# Altium schematic symbol library jclib.SchLib: 247 symbols (part 2 of 2)
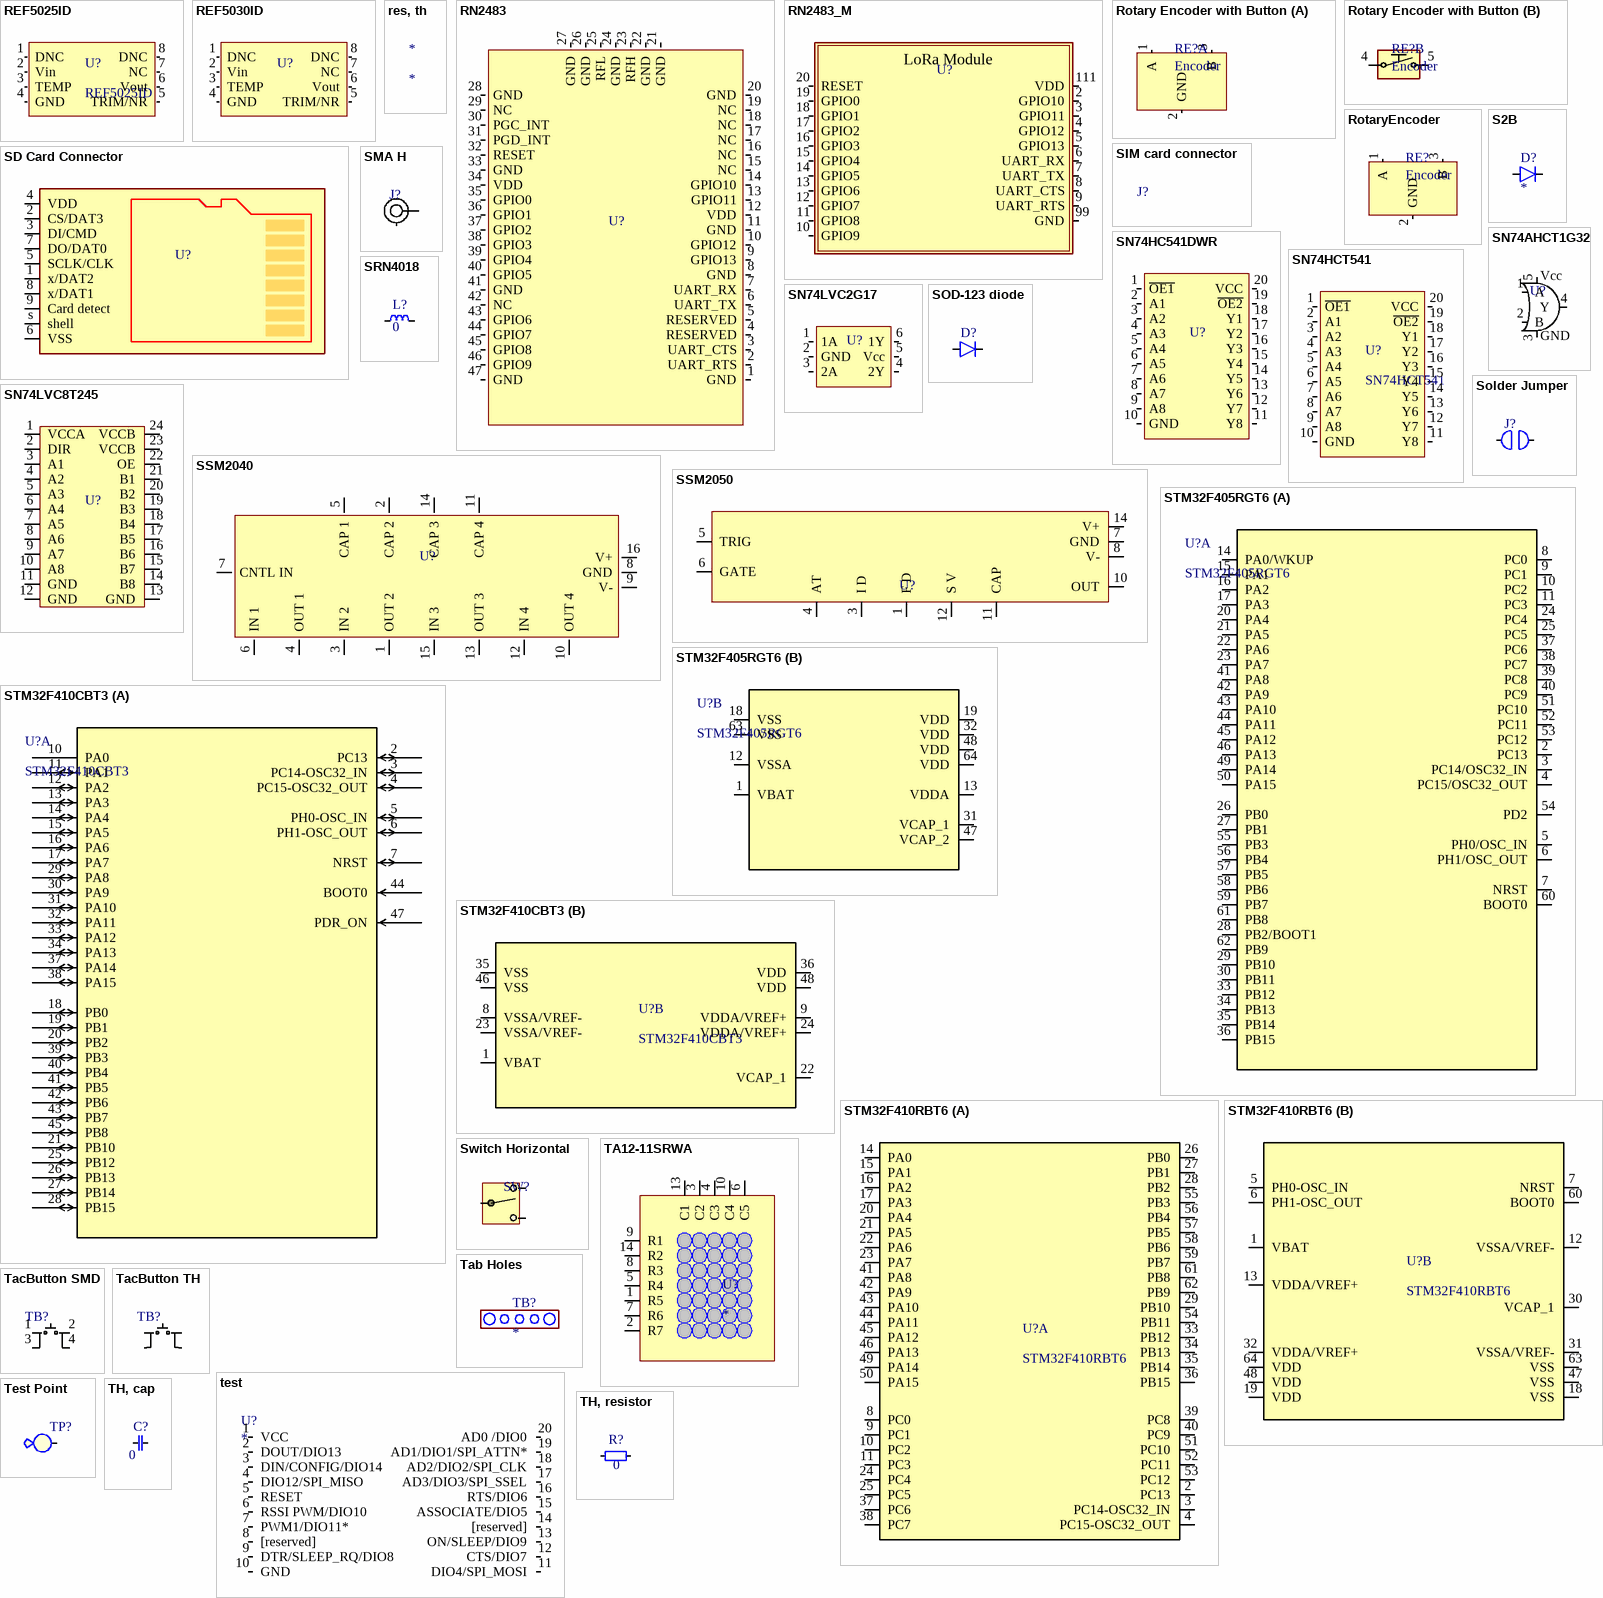
[diagram p10: symbols REF5025ID to TH, resistor]

## STM32F410CBT3
designator U?
No Description Available; Vendor: STMicroelectronics; Built_By: EMA_UL_Team; SourceLibrary: Updates_to_database_2020-10-19; Manufacturer_Part_Number: STM32F410CBT3; Copyright: Copyright (C) 2018 Accelerated Designs. All rights reserved; RefDes: RefDes; Type: DEV
footprint TQFP127P600-8N (TQFP48 - 48-pin, LQFP48 - 48-pin, 0.5 mm pitch)
part A pins: 2 PC13, 3 PC14-OSC32_IN, 4 PC15-OSC32_OUT, 5 PH0-OSC_IN, 6 PH1-OSC_OUT, 7 NRST, 10 PA0, 11 PA1, 12 PA2, 13 PA3, 14 PA4, 15 PA5, 16 PA6, 17 PA7, 18 PB0, 19 PB1, 20 PB2, 21 PB10, 25 PB12, 26 PB13, 27 PB14, 28 PB15, 29 PA8, 30 PA9, 31 PA10, 32 PA11, 33 PA12, 34 PA13, 37 PA14, 38 PA15, 39 PB3, 40 PB4, 41 PB5, 42 PB6, 43 PB7, 44 BOOT0, 45 PB8, 47 PDR_ON
part B pins: 1 VBAT (power), 8 VSSA/VREF- (power), 9 VDDA/VREF+ (power), 22 VCAP_1 (power), 23 VSSA/VREF- (power), 24 VDDA/VREF+ (power), 35 VSS (power), 36 VDD (power), 46 VSS (power), 48 VDD (power)

## STM32F410RBT6
designator U?
No Description Available; Vendor: STMicroelectronics; Built_By: EMA_UL_Team; SourceLibrary: Updates_to_database_2020-10-19; Manufacturer_Part_Number: STM32F410RBT6; Copyright: Copyright (C) 2018 Accelerated Designs. All rights reserved; RefDes: RefDes; Type: DEV
footprint LQFP64-10x10mm
part A pins: 2 PC13, 3 PC14-OSC32_IN, 4 PC15-OSC32_OUT, 8 PC0, 9 PC1, 10 PC2, 11 PC3, 14 PA0, 15 PA1, 16 PA2, 17 PA3, 20 PA4, 21 PA5, 22 PA6, 23 PA7, 24 PC4, 25 PC5, 26 PB0, 27 PB1, 28 PB2, 29 PB10, 33 PB12, 34 PB13, 35 PB14, 36 PB15, 37 PC6, 38 PC7, 39 PC8, 40 PC9, 41 PA8, 42 PA9, 43 PA10, 44 PA11, 45 PA12, 46 PA13, 49 PA14, 50 PA15, 51 PC10, 52 PC11, 53 PC12, 54 PB11, 55 PB3, 56 PB4, 57 PB5, 58 PB6, 59 PB7, 61 PB8, 62 PB9
part B pins: 1 VBAT (power), 5 PH0-OSC_IN, 6 PH1-OSC_OUT, 7 NRST, 12 VSSA/VREF- (power), 13 VDDA/VREF+ (power), 18 VSS (power), 19 VDD (power), 30 VCAP_1 (power), 31 VSSA/VREF- (power), 32 VDDA/VREF+ (power), 47 VSS (power), 48 VDD (power), 60 BOOT0, 63 VSS (power), 64 VDD (power)

## Switch Horizontal
designator SW?  (value not drawn)
Value: Toggle Switch; Farnell: 2435204
footprint Switch_Horizontal (Two Way Single Pole Switch)
pins: 1, 2, 3

## TA12-11SRWA
designator U?
30.6mm (1.2 INCH) 5x7 DOT MATRIX DISPLAY; Value: LED matrix; Digikey: 754-2303-ND
footprint TA12_11 (LED matrix)
pins: 1 R5, 2 R7, 3 C2, 4 C3, 5 R4, 6 C5, 7 R6, 8 R3, 9 R1, 10 C4, 13 C1, 14 R2

## Tab Holes
designator TB?
Tab Holes for panels
footprint tab_holes

## TacButton SMD
designator TB?, comment Tactile Button  (value not drawn)
Tactile Switch Small Low; Value: Button SMD; ELFA: 110-87-406
footprint tacButton smd
pins: 1, 2, 3, 4

## TacButton TH
designator TB?, comment Tactile Button  (value not drawn)
Tactile Switch Small Low
footprint tacButton
pins: 1, 2, 3, 4

## test
designator U?
Value: Op amp
footprint test
pins: 1 VCC, 2 DOUT/DIO13, 3 DIN/CONFIG/DIO14, 4 DIO12/SPI_MISO, 5 RESET, 6 RSSI PWM/DIO10, 7 PWM1/DIO11*, 8 [reserved], 9 DTR/SLEEP_RQ/DIO8, 10 GND, 11 DIO4/SPI_MOSI, 12 CTS/DIO7, 13 ON/SLEEP/DIO9, 14 [reserved], 15 ASSOCIATE/DIO5, 16 RTS/DIO6, 17 AD3/DIO3/SPI_SSEL, 18 AD2/DIO2/SPI_CLK, 19 AD1/DIO1/SPI_ATTN*, 20 AD0 /DIO0

## Test Point
designator TP?  (value not drawn)
Value: Test point; Farnell: 1702006
footprint testPoint (Diameter 2mm, Hole 0.3mm)
pins: 0

## TH, cap
designator C?  value 0  (hidden comment: *)
Supplier: Farnell; Order number: *
footprint cap_cer_5_08
footprint th, cap (8 mm)
pins: 1, 2

## TH, resistor
designator R?  value 0
footprint TH (Spacing 9mm)
pins: 1, 2

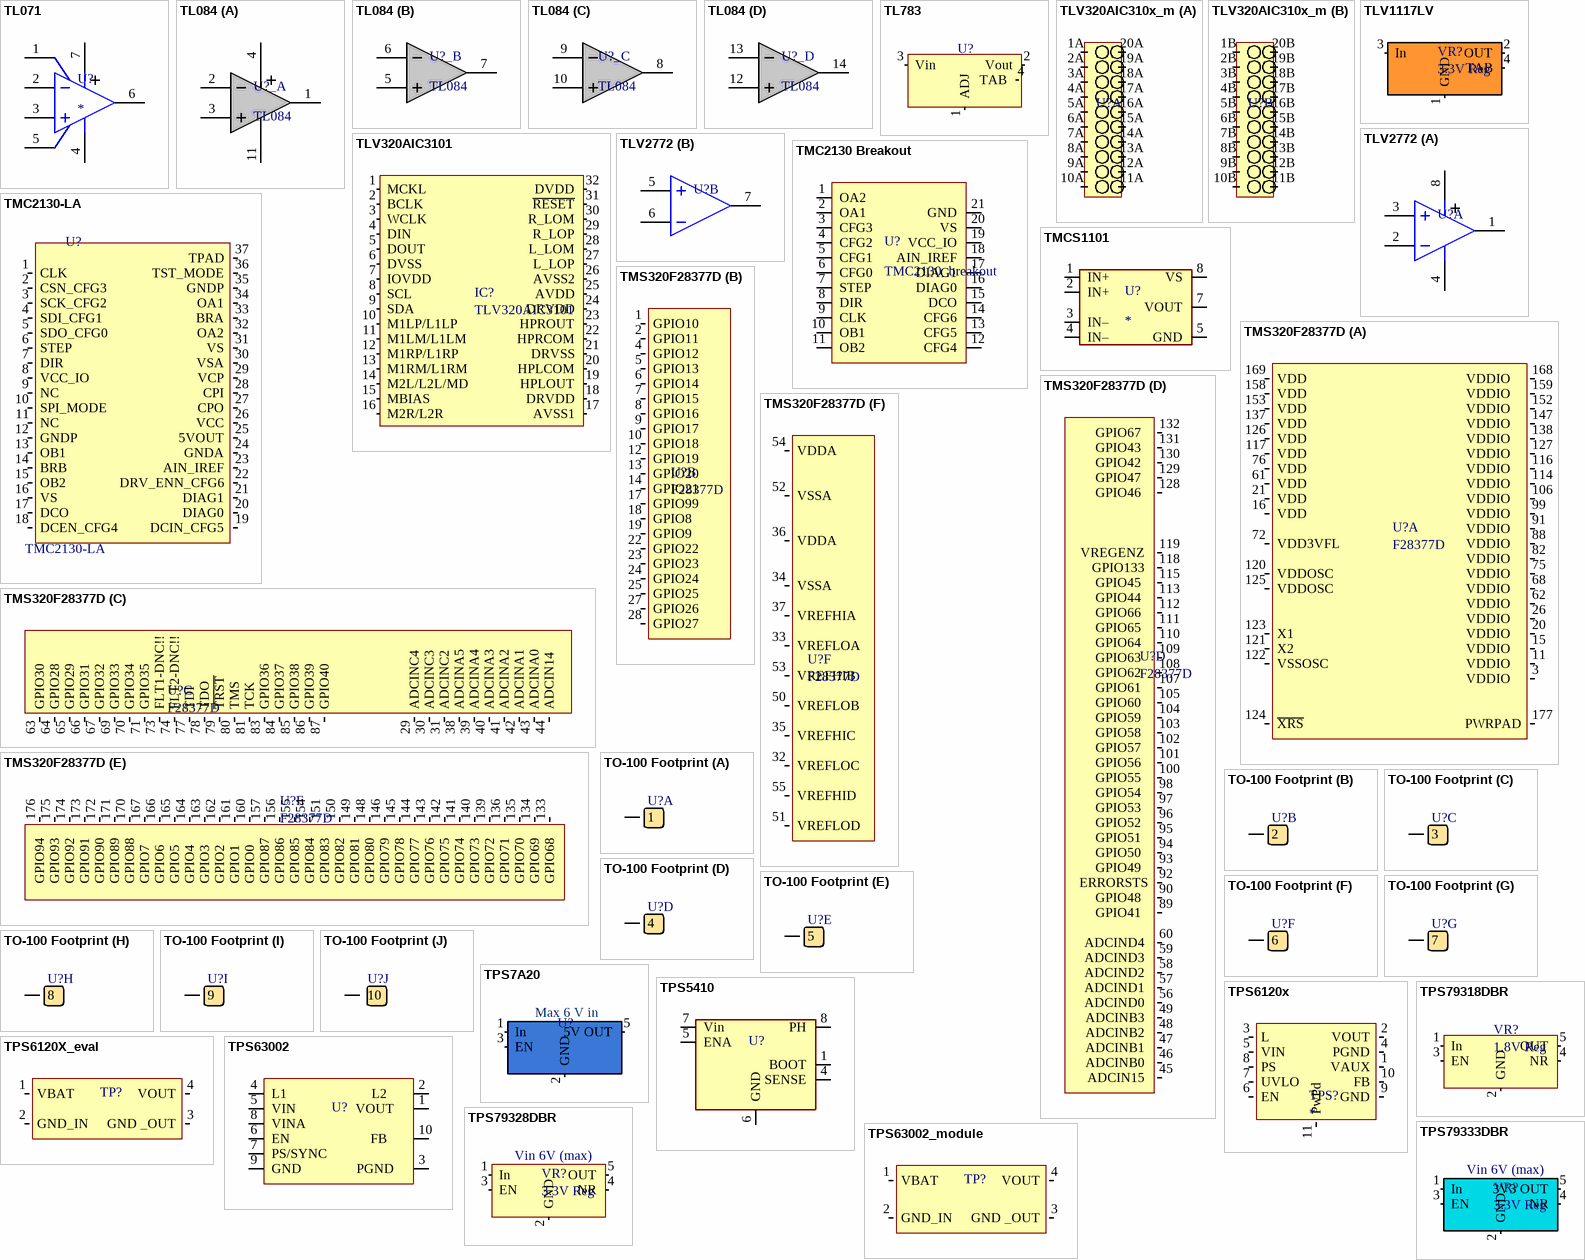
[diagram p7: symbols TL071 to TPS79333DBR]

## TL071
designator U?
footprint DIP8
pins: 1 OS TRIM, 2 IN-, 3 IN+, 4 V- (power), 5 OS TRIM, 6 OUT, 7 V+ (power)

## TL084
designator U?_
Quad FET-Input Operational Amplifier
footprint DIP14
part A pins: 1 OUT1, 2 IN-, 3 IN+, 4 V+ (power), 11 V- (power)
part B pins: 5 IN+, 6 IN-, 7 OUT2
part C pins: 8 OUT3 (hiz), 9 IN- (hiz), 10 IN+ (hiz)
part D pins: 12 IN+, 13 IN-, 14 OUT4

## TL783
designator U?  (value not drawn)
TL783 High-voltage Adjustable Regulator; Value: Voltage Regulator
footprint TO-263
pins: 1 ADJ, 2 Vout, 3 Vin, 4 TAB

## TLV320AIC310x_m
designator U?
Value: TLV320AIC31x Module. See TLV-project for BOM.
footprint TLV320AIC310x_m (Codec Module)
part A pins: 1A 1, 2A 2, 3A 3, 4A 4, 5A 5, 6A 6, 7A 7, 8A 8, 9A 9, 10A 10, 11A 11, 12A 12, 13A 13, 14A 14, 15A 15, 16A 16, 17A 17, 18A 18, 19A 19, 20A 20
part B pins: 1B, 2B, 3B, 4B, 5B, 6B, 7B, 8B, 9B, 10B, 11B, 12B, 13B, 14B, 15B, 16B, 17B, 18B, 19B, 20B

## TLV320AIC3101
designator IC?
Low-Power Stereo Audio Codec for Portable Audio/Telephony; Value: TLV320AIC3101; Farnell: 2075402
footprint QFN32_5X5 (QFN 32, 5X5 mm, 0.5 mm pitch)
pins: 1 MCKL, 2 BCLK, 3 WCLK, 4 DIN, 5 DOUT, 6 DVSS, 7 IOVDD, 8 SCL, 9 SDA, 10 M1LP/L1LP, 11 M1LM/L1LM, 12 M1RP/L1RP, 13 M1RM/L1RM, 14 M2L/L2L/MD, 15 MBIAS, 16 M2R/L2R, 17 AVSS1, 18 DRVDD, 19 HPLOUT, 20 HPLCOM, 21 DRVSS, 22 HPRCOM, 23 HPROUT, 24 DRVDD, 25 AVDD, 26 AVSS2, 27 L_LOP, 28 L_LOM, 29 R_LOP, 30 R_LOM, 31 ~{RESET}, 32 DVDD

## TLV1117LV
designator VR?, comment 3.3V Reg
TLV1117LV 1-A, Positive Fixed-Voltage, Low-Dropout Regulator; Value: TPS79333DBVR; Drop Out: 102mV; Farnell: 1287689
footprint SOT223 (SOT223, 4-Leads, Body 6,50x7,10mm (avg), Pitch 2,30mm, IPC Medium Density)
pins: 1 GND, 2 OUT, 3 In, 4 TAB

## TLV2772
designator U?
Op Amp, Rail-to-rail output
footprint soic8 (SOIC, 8-Leads, Body 4,90x3,90mm, Pitch 1,27mm, IPC Medium Density)
part A pins: 1 OUT, 2 IN-, 3 IN+, 4 V- (power), 8 V+ (power)
part B pins: 5 IN+, 6 IN-, 7 OUT

## TMC2130 Breakout
designator U?, comment TMC2130_breakout
footprint TMC2130_breakout
pins: 1 OA2, 2 OA1, 3 CFG3, 4 CFG2, 5 CFG1, 6 CFG0, 7 STEP, 8 DIR, 9 CLK, 10 OB1, 11 OB2, 12 CFG4, 13 CFG5, 14 CFG6, 15 DCO, 16 DIAG0, 17 DIAG1, 18 AIN_IREF, 19 VCC_IO, 20 VS, 21 GND

## TMC2130-LA
designator U?  value TMC2130-LA  (hidden comment: *)
Two-phase bipolar stepper motor driver
footprint QFN36 (5x6mm, pitch 0.5mm)
pins: 1 CLK, 2 CSN_CFG3, 3 SCK_CFG2, 4 SDI_CFG1, 5 SDO_CFG0, 6 STEP, 7 DIR, 8 VCC_IO, 9 NC, 10 SPI_MODE, 11 NC, 12 GNDP, 13 OB1, 14 BRB, 15 OB2, 16 VS, 17 DCO, 18 DCEN_CFG4, 19 DCIN_CFG5, 20 DIAG0, 21 DIAG1, 22 DRV_ENN_CFG6, 23 AIN_IREF, 24 GNDA, 25 5VOUT, 26 VCC, 27 CPO, 28 CPI, 29 VCP, 30 VSA, 31 VS, 32 OA2, 33 BRA, 34 OA1, 35 GNDP, 36 TST_MODE, 37 TPAD

## TMCS1101
designator U?
Hall-Effect Current Sensor
footprint SOIC8 (SOIC, 8-Leads, Body 4,90x3,90mm, Pitch 1,27mm, IPC Medium Density)
pins: 1 IN+, 2 IN+, 3 IN–, 4 IN–, 5 GND, 7 VOUT, 8 VS

## TMS320F28377D
designator U?, comment F28377D
Delfino 32-bit MCU with 800 MIPS, 2xCPU, 2xCLA, FPU, TMU, 1024 KB Flash, EMIF, 16b ADC; Value: F28377D
footprint HLQFP176
part A pins: 3 VDDIO   , 11 VDDIO   , 15 VDDIO   , 16 VDD     , 20 VDDIO   , 21 VDD     , 26 VDDIO   , 61 VDD     , 62 VDDIO   , 68 VDDIO   , 72 VDD3VFL , 75 VDDIO   , 76 VDD     , 82 VDDIO   , 88 VDDIO   , 91 VDDIO   , 99 VDDIO   , 106 VDDIO   , 114 VDDIO   , 116 VDDIO   , 117 VDD     , 120 VDDOSC  , 121 X2      , 122 VSSOSC  , 123 X1      , 124 ~{XRS}     , 125 VDDOSC  , 126 VDD     , 127 VDDIO   , 137 VDD     , 138 VDDIO   , 147 VDDIO   , 152 VDDIO   , 153 VDD     , 158 VDD     , 159 VDDIO   , 168 VDDIO   , 169 VDD     , 177 PWRPAD
part B pins: 1 GPIO10  , 2 GPIO11  , 4 GPIO12  , 5 GPIO13  , 6 GPIO14  , 7 GPIO15  , 8 GPIO16  , 9 GPIO17  , 10 GPIO18  , 12 GPIO19  , 13 GPIO20  , 14 GPIO21  , 17 GPIO99  , 18 GPIO8   , 19 GPIO9   , 22 GPIO22  , 23 GPIO23  , 24 GPIO24  , 25 GPIO25  , 27 GPIO26  , 28 GPIO27  
part C pins: 29 ADCINC4 , 30 ADCINC3 , 31 ADCINC2 , 38 ADCINA5 , 39 ADCINA4 , 40 ADCINA3 , 41 ADCINA2 , 42 ADCINA1 , 43 ADCINA0 , 44 ADCIN14 , 63 GPIO30  , 64 GPIO28  , 65 GPIO29  , 66 GPIO31  , 67 GPIO32  , 69 GPIO33  , 70 GPIO34  , 71 GPIO35  , 73 FLT1-DNC!!, 74 FLT2-DNC!!, 77 TDI     , 78 TDO     , 79 ~{TRST}    , 80 TMS     , 81 TCK     , 83 GPIO36  , 84 GPIO37  , 85 GPIO38  , 86 GPIO39  , 87 GPIO40  
part D pins: 45 ADCIN15 , 46 ADCINB0 , 47 ADCINB1 , 48 ADCINB2 , 49 ADCINB3 , 56 ADCIND0 , 57 ADCIND1 , 58 ADCIND2 , 59 ADCIND3 , 60 ADCIND4 , 89 GPIO41  , 90 GPIO48  , 92 ERRORSTS, 93 GPIO49  , 94 GPIO50  , 95 GPIO51  , 96 GPIO52  , 97 GPIO53  , 98 GPIO54  , 100 GPIO55  , 101 GPIO56  , 102 GPIO57  , 103 GPIO58  , 104 GPIO59  , 105 GPIO60  , 107 GPIO61  , 108 GPIO62  , 109 GPIO63  , 110 GPIO64  , 111 GPIO65  , 112 GPIO66  , 113 GPIO44  , 115 GPIO45  , 118 GPIO133 , 119 VREGENZ , 128 GPIO46  , 129 GPIO47  , 130 GPIO42  , 131 GPIO43  , 132 GPIO67  
part E pins: 133 GPIO68  , 134 GPIO69  , 135 GPIO70  , 136 GPIO71  , 139 GPIO72  , 140 GPIO73  , 141 GPIO74  , 142 GPIO75  , 143 GPIO76  , 144 GPIO77  , 145 GPIO78  , 146 GPIO79  , 148 GPIO80  , 149 GPIO81  , 150 GPIO82  , 151 GPIO83  , 154 GPIO84  , 155 GPIO85  , 156 GPIO86  , 157 GPIO87  , 160 GPIO0    , 161 GPIO1    , 162 GPIO2    , 163 GPIO3    , 164 GPIO4    , 165 GPIO5    , 166 GPIO6    , 167 GPIO7    , 170 GPIO88  , 171 GPIO89  , 172 GPIO90  , 173 GPIO91  , 174 GPIO92  , 175 GPIO93  , 176 GPIO94  
part F pins: 32 VREFLOC , 33 VREFLOA , 34 VSSA    , 35 VREFHIC , 36 VDDA    , 37 VREFHIA , 50 VREFLOB , 51 VREFLOD , 52 VSSA    , 53 VREFHIB , 54 VDDA    , 55 VREFHID 

## TO-100 Footprint
designator U?  (value not drawn)
footprint to-100
part A pins: 1
part B pins: 2
part C pins: 3
part D pins: 4
part E pins: 5
part F pins: 6
part G pins: 7
part H pins: 8
part I pins: 9
part J pins: 10

## TPS7A20
designator U?  (value not drawn)
5V and 300-mA, Ultra-Low-Noise, Low-IQ, High PSRR LDO; Order number: 296-TPS7A2050PDBVRCT-ND; Supplier: Digikey
footprint SOT23-5 (SOT23, 5-Leads, Body 2,90x2,80mm, Pitch 0,95mm, IPC Medium Density)
pins: 1 In, 2 GND, 3 EN, 5 5V OUT
text: Max 6 V in

## TPS5410
designator U?  (value not drawn)
1-A, Wide Input Range, Step-Down Converter; Value: *; Supplier: *; Order Number: *
footprint SOIC8 (SOIC, 8-Leads, Body 4,90x3,90mm, Pitch 1,27mm, IPC Medium Density)
pins: 1 BOOT, 4 SENSE, 5 ENA, 6 GND, 7 Vin, 8 PH

## TPS6120x
designator TPS?
TPS6120x Low Input Voltage Synchronous Boost Converter; Value: TPS61200; DigiKey: 296-27017-1-ND
footprint PSON10N (Pitch - 0.5 mm)
pins: 1 VAUX, 2 VOUT, 3 L, 4 PGND, 5 VIN, 6 EN, 7 UVLO, 8 PS, 9 GND, 10 FB, 11 PwPd

## TPS6120X_eval
designator TP?  (value not drawn)
Module - Low Input Voltage Synchronous Boost Converter  With 1.3-A Switches; Value: TPS6120X Module
footprint TPS6120X_eval (x Low Input Voltage Synchronous Boost Converter  With 1.3-A Switches)
pins: 1 VBAT, 2 GND_IN, 3 GND _OUT, 4 VOUT

## TPS63002
designator U?
High-Efficient Single Inductor Buck-Boost Converter With 1.8-A Switches; Value: DC/DC Converter; Digikey: 296-19644-1-ND
footprint PSON10N (Pitch - 0.5 mm)
pins: 1 VOUT   , 2 L2     , 3 PGND   , 4 L1     , 5 VIN    , 6 EN     , 7 PS/SYNC, 8 VINA   , 9 GND    , 10 FB     

## TPS63002_module
designator TP?  (value not drawn)
High-Efficient Single Inductor Buck-Boost Converter With 1.8-A Switches; Value: TPS6120X Module
footprint TPS63002_module
pins: 1 VBAT, 2 GND_IN, 3 GND _OUT, 4 VOUT

## TPS79318DBR
designator VR?, comment 1.8V Reg
1.8V Reg, Ultra-Low Noise, 200 mA; Value: TPS79318DBVR; Farnell: 1652374
footprint SOT23-5 (SOT23, 5-Leads, Body 2,90x2,80mm, Pitch 0,95mm, IPC Medium Density)
pins: 1 In, 2 GND, 3 EN, 4 NR, 5 OUT

## TPS79328DBR
designator VR?, comment 3.3V Reg  Input Voltage: Vin 6V (max)
2.8V Reg, Ultra-Low Noise, 200 mA; Value: TPS79328DBVR; Drop Out: 102mV; Farnell: 3007956; Digikey: 296-12158-1-ND
footprint SOT23-5 (SOT23, 5-Leads, Body 2,90x2,80mm, Pitch 0,95mm, IPC Medium Density)
pins: 1 In, 2 GND, 3 EN, 4 NR, 5 OUT

## TPS79333DBR
designator VR?, comment 3.3V Reg  Input Voltage: Vin 6V (max)
3.3V Reg, Ultra-Low Noise, 200 mA; Value: TPS79333DBVR; Drop Out: 102mV; Farnell: 1287689
footprint SOT23-5 (SOT23, 5-Leads, Body 2,90x2,80mm, Pitch 0,95mm, IPC Medium Density)
pins: 1 In, 2 GND, 3 EN, 4 NR, 5 3V3 OUT

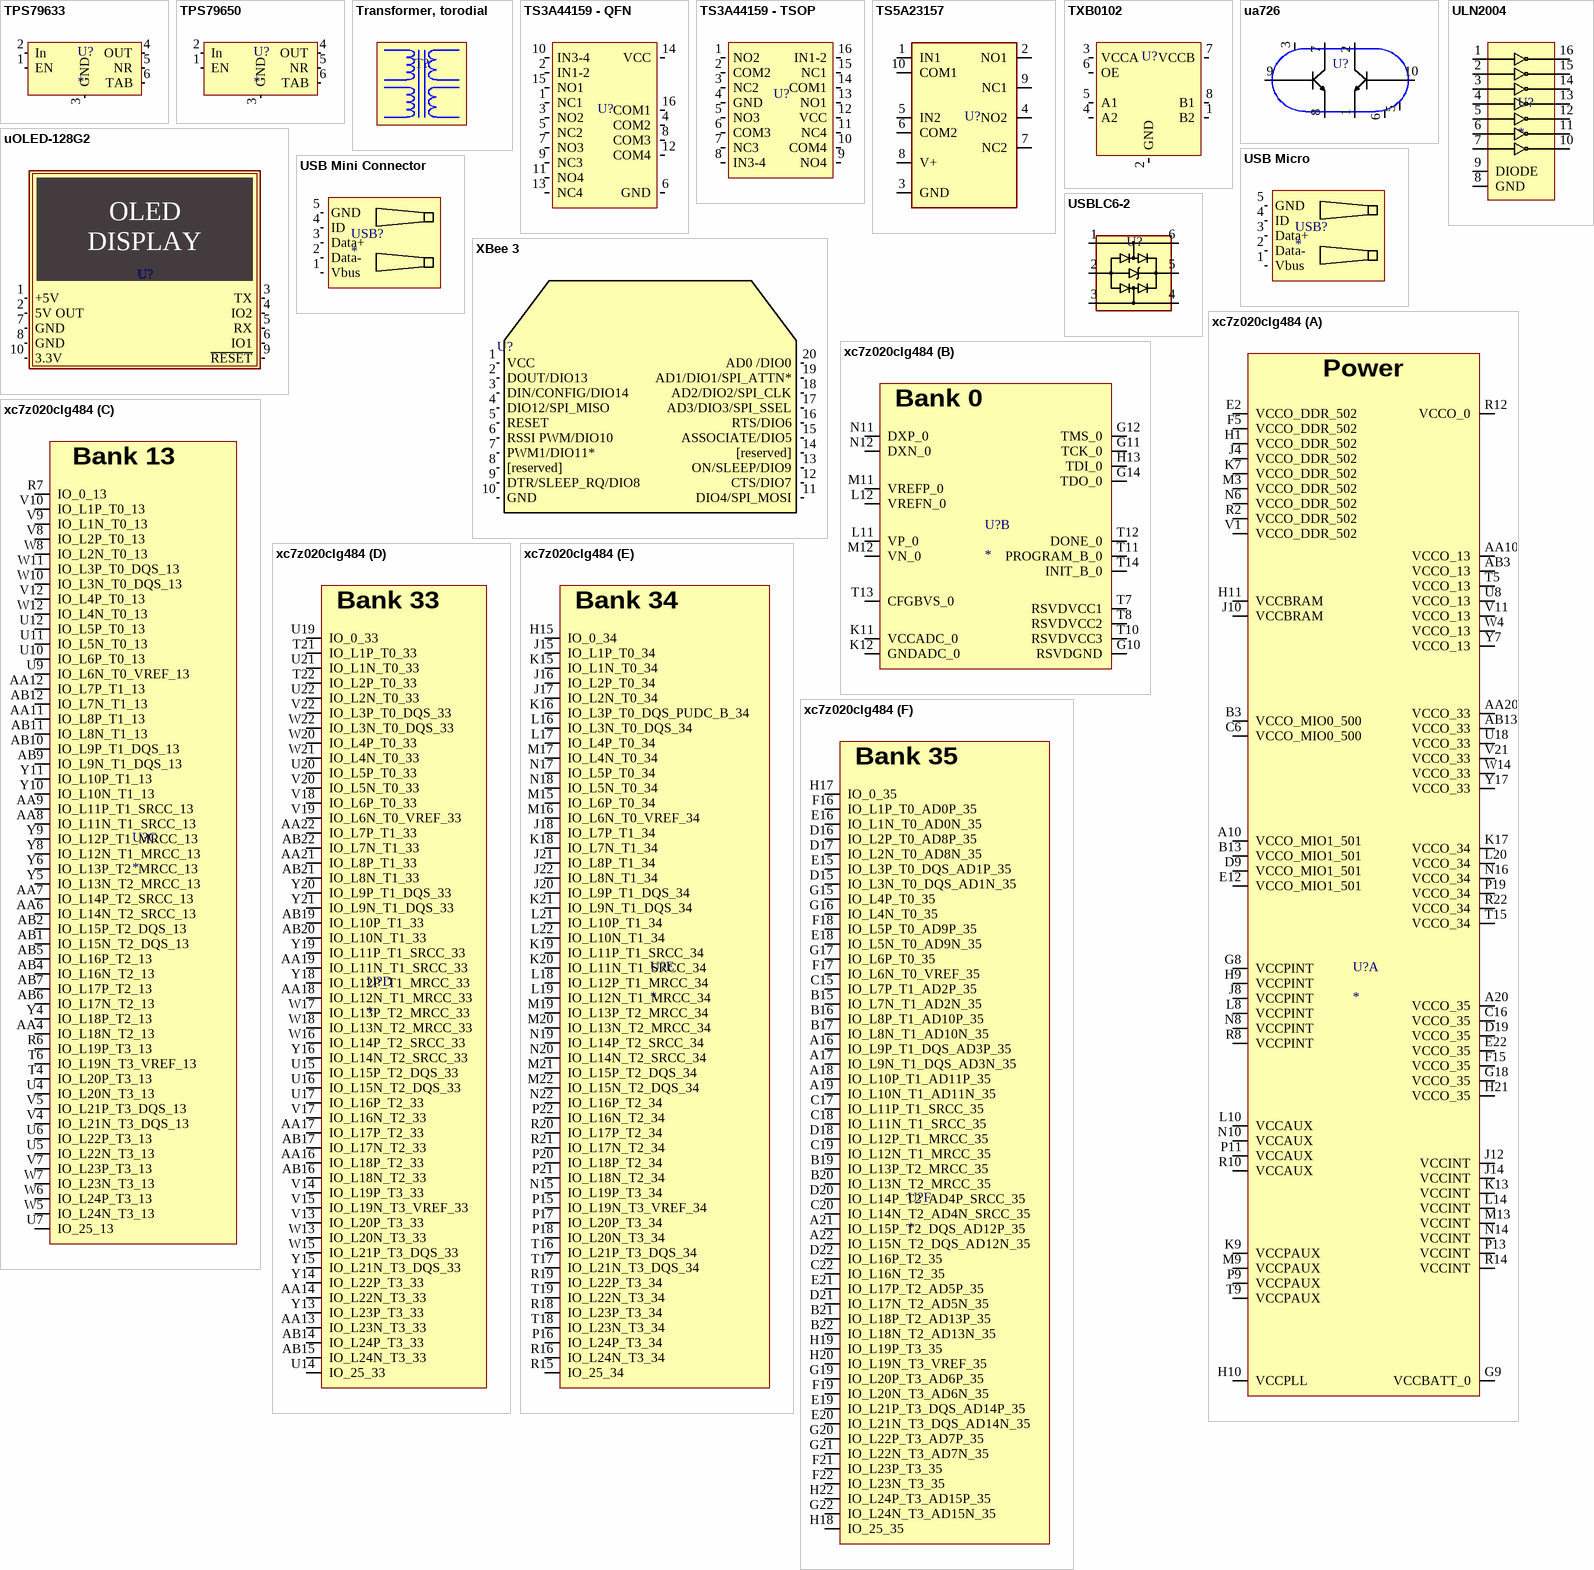
[diagram p8: symbols TPS79633 to xc7z020clg484]

## TPS79633
designator U?
3.3 V 1-A Low-Dropout Linear Regulators; Value: LDO TPS79633; Supplier: *; Order Number: *
footprint SOT223-6 (SOT223, 6-Leads, Body 6,50x7,06mm (avg), Pitch 1,27mm, IPC Medium Density)
pins: 1 EN, 2 In, 3 GND, 4 OUT, 5 NR, 6 TAB

## TPS79650
designator U?
5.0 V 1-A Low-Dropout Linear Regulators; Value: LDO TPS79650; Supplier: *; Order Number: *
footprint SOT223-6 (SOT223, 6-Leads, Body 6,50x7,06mm (avg), Pitch 1,27mm, IPC Medium Density)
pins: 1 EN, 2 In, 3 GND, 4 OUT, 5 NR, 6 TAB

## Transformer, torodial
designator T?  (value not drawn)
Value: Transformer; Supplier: *; Order number: *
footprint transformer_totodial

## TS3A44159 - QFN
designator U?  (value not drawn)
Value: Analog switch; Farnell: 2496546
footprint QFN16 - 3x3mm (QFN, 16-Leads, Body 3,00x3,00mm, Pitch 0,50mm)
pins: 1 NC1, 2 IN1-2, 3 NO2, 4 COM2, 5 NC2, 6 GND, 7 NO3, 8 COM3, 9 NC3, 10 IN3-4, 11 NO4, 12 COM4, 13 NC4, 14 VCC, 15 NO1, 16 COM1

## TS3A44159 - TSOP
designator U?  (value not drawn)
Value: Analog switch; Farnell: 1755573
footprint TSOP-16 (TSOP, 16-Leads, Body 5,00x4,40mm, Pitch 0,65mm)
pins: 1 NO2, 2 COM2, 3 NC2, 4 GND, 5 NO3, 6 COM3, 7 NC3, 8 IN3-4, 9 NO4, 10 COM4, 11 NC4, 12 VCC, 13 NO1, 14 COM1, 15 NC1, 16 IN1-2

## TS5A23157
designator U?  (value not drawn)
Dual 10-Ω SPDT Analog Switch
footprint VSSOP10
pins: 1 IN1, 2 NO1, 3 GND, 4 NO2, 5 IN2, 6 COM2, 7 NC2, 8 V+, 9 NC1, 10 COM1

## TXB0102
designator U?  (value not drawn)
2-Bit Bidirectional Voltage-Level Translator for Open-Drain and Push-Pull  Applications; Value: Level Converter; Digikey: *
footprint VSSOP8
footprint VSSOP8_S
pins: 1 B2, 2 GND, 3 VCCA, 4 A2, 5 A1, 6 OE, 7 VCCB, 8 B1

## ua726
designator U?  (value not drawn)
Value: Matched differential transistor pair; Supplier: *; Order number: *
footprint to-100
pins: 1, 2, 3, 5, 6, 7, 8, 9, 10

## ULN2004
designator U?
Seven Darlington array; Value: Driver; Digikey: 497-2346-5-ND
footprint DIP16
pins: 1, 2, 3, 4, 5, 6, 7, 8 GND, 9 DIODE, 10, 11, 12, 13, 14, 15, 16

## uOLED-128G2
designator U?  (value not drawn)
Value: OLED-Display; Farnell: 2316038
footprint uOLED-128G2 (1.5” microOLED GOLDELOX Display)
footprint uOLED-128G2_no3d (1.5” microOLED GOLDELOX Display)
pins: 1 +5V, 2 5V OUT, 3 TX, 4 IO2, 5 RX, 6 IO1, 7 GND, 8 GND, 9 ~{RESET}, 10 3.3V
text: OLED; DISPLAY

## USB Micro
designator USB?
USB Mini Connector; Value: USB Mini Connector; Farnell: 1125348
footprint micro_usb
pins: 1 Vbus, 2 Data-, 3 Data+, 4 ID, 5 GND

## USB Mini Connector
designator USB?
USB Mini Connector; Value: USB Mini Connector; Farnell: 1125348
footprint USB Mini
footprint USB Mini TH
footprint usb_mini2
pins: 1 Vbus, 2 Data-, 3 Data+, 4 ID, 5 GND

## USBLC6-2
designator U?  (value not drawn)
Very low capacitance 2 data-line and VBUS ESD protection
footprint SOT236 (SOT23, 6-Leads, Body 2,90x2,80mm, Pitch 0,95mm, IPC Medium Density)
pins: 1, 2, 3, 4, 5, 6

## XBee 3
designator U?  (value not drawn)
RF module, pin header 2 mm pitch; Value: XBee 3, RF module
footprint xbee3_pin
pins: 1 VCC, 2 DOUT/DIO13, 3 DIN/CONFIG/DIO14, 4 DIO12/SPI_MISO, 5 RESET, 6 RSSI PWM/DIO10, 7 PWM1/DIO11*, 8 [reserved], 9 DTR/SLEEP_RQ/DIO8, 10 GND, 11 DIO4/SPI_MOSI, 12 CTS/DIO7, 13 ON/SLEEP/DIO9, 14 [reserved], 15 ASSOCIATE/DIO5, 16 RTS/DIO6, 17 AD3/DIO3/SPI_SSEL, 18 AD2/DIO2/SPI_CLK, 19 AD1/DIO1/SPI_ATTN*, 20 AD0 /DIO0

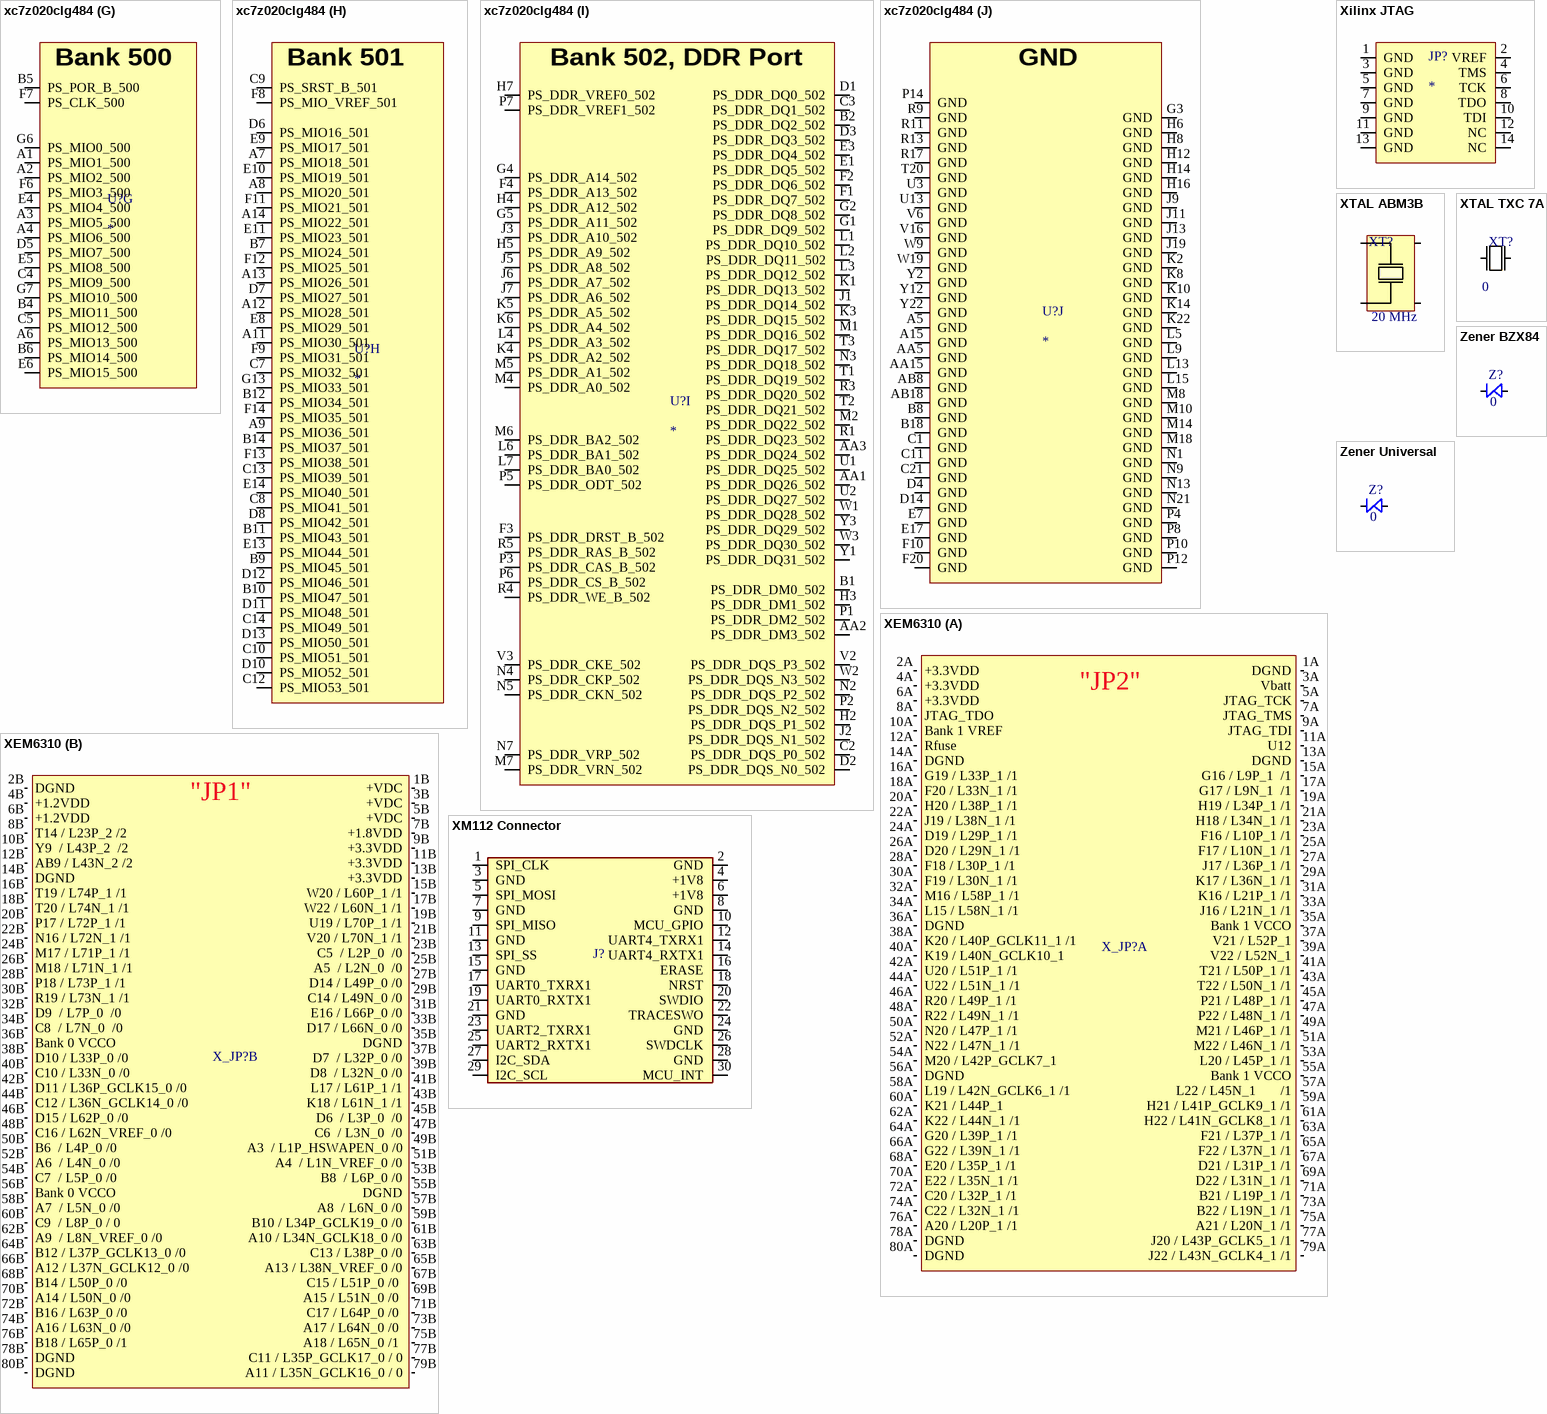
[diagram p9: symbols xc7z020clg484 to Zener Universal]

## xc7z020clg484
designator U?
footprint xc7z020clg484pkg
part A pins: A10 VCCO_MIO1_501, A20 VCCO_35, AA10 VCCO_13, AA20 VCCO_33, AB3 VCCO_13, AB13 VCCO_33, B3 VCCO_MIO0_500, B13 VCCO_MIO1_501, C6 VCCO_MIO0_500, C16 VCCO_35, D9 VCCO_MIO1_501, D19 VCCO_35, E2 VCCO_DDR_502, E12 VCCO_MIO1_501, E22 VCCO_35, F5 VCCO_DDR_502, F15 VCCO_35, G8 VCCPINT, G9 VCCBATT_0, G18 VCCO_35, H1 VCCO_DDR_502, H9 VCCPINT, H10 VCCPLL, H11 VCCBRAM, H21 VCCO_35, J4 VCCO_DDR_502, J8 VCCPINT, J10 VCCBRAM, J12 VCCINT, J14 VCCINT, K7 VCCO_DDR_502, K9 VCCPAUX, K13 VCCINT, K17 VCCO_34, L8 VCCPINT, L10 VCCAUX, L14 VCCINT, L20 VCCO_34, M3 VCCO_DDR_502, M9 VCCPAUX, M13 VCCINT, N6 VCCO_DDR_502, N8 VCCPINT, N10 VCCAUX, N14 VCCINT, N16 VCCO_34, P9 VCCPAUX, P11 VCCAUX, P13 VCCINT, P19 VCCO_34, R2 VCCO_DDR_502, R8 VCCPINT, R10 VCCAUX, R12 VCCO_0, R14 VCCINT, R22 VCCO_34, T5 VCCO_13, T9 VCCPAUX, T15 VCCO_34, U8 VCCO_13, U18 VCCO_33, V1 VCCO_DDR_502, V11 VCCO_13, V21 VCCO_33, W4 VCCO_13, W14 VCCO_33, Y7 VCCO_13, Y17 VCCO_33
part B pins: G10 RSVDGND, G11 TCK_0, G12 TMS_0, G14 TDO_0, H13 TDI_0, K11 VCCADC_0, K12 GNDADC_0, L11 VP_0, L12 VREFN_0, M11 VREFP_0, M12 VN_0, N11 DXP_0, N12 DXN_0, T7 RSVDVCC1, T8 RSVDVCC2, T10 RSVDVCC3, T11 PROGRAM_B_0, T12 DONE_0, T13 CFGBVS_0, T14 INIT_B_0
part C pins: AA4 IO_L18N_T2_13, AA6 IO_L14N_T2_SRCC_13, AA7 IO_L14P_T2_SRCC_13, AA8 IO_L11N_T1_SRCC_13, AA9 IO_L11P_T1_SRCC_13, AA11 IO_L8P_T1_13, AA12 IO_L7P_T1_13, AB1 IO_L15N_T2_DQS_13, AB2 IO_L15P_T2_DQS_13, AB4 IO_L16N_T2_13, AB5 IO_L16P_T2_13, AB6 IO_L17N_T2_13, AB7 IO_L17P_T2_13, AB9 IO_L9N_T1_DQS_13, AB10 IO_L9P_T1_DQS_13, AB11 IO_L8N_T1_13, AB12 IO_L7N_T1_13, R6 IO_L19P_T3_13, R7 IO_0_13, T4 IO_L20P_T3_13, T6 IO_L19N_T3_VREF_13, U4 IO_L20N_T3_13, U5 IO_L22N_T3_13, U6 IO_L22P_T3_13, U7 IO_25_13, U9 IO_L6N_T0_VREF_13, U10 IO_L6P_T0_13, U11 IO_L5N_T0_13, U12 IO_L5P_T0_13, V4 IO_L21N_T3_DQS_13, V5 IO_L21P_T3_DQS_13, V7 IO_L23P_T3_13, V8 IO_L2P_T0_13, V9 IO_L1N_T0_13, V10 IO_L1P_T0_13, V12 IO_L4P_T0_13, W5 IO_L24N_T3_13, W6 IO_L24P_T3_13, W7 IO_L23N_T3_13, W8 IO_L2N_T0_13, W10 IO_L3N_T0_DQS_13, W11 IO_L3P_T0_DQS_13, W12 IO_L4N_T0_13, Y4 IO_L18P_T2_13, Y5 IO_L13N_T2_MRCC_13, Y6 IO_L13P_T2_MRCC_13, Y8 IO_L12N_T1_MRCC_13, Y9 IO_L12P_T1_MRCC_13, Y10 IO_L10N_T1_13, Y11 IO_L10P_T1_13
part D pins: AA13 IO_L23N_T3_33, AA14 IO_L22N_T3_33, AA16 IO_L18P_T2_33, AA17 IO_L17P_T2_33, AA18 IO_L12N_T1_MRCC_33, AA19 IO_L11N_T1_SRCC_33, AA21 IO_L8P_T1_33, AA22 IO_L7P_T1_33, AB14 IO_L24P_T3_33, AB15 IO_L24N_T3_33, AB16 IO_L18N_T2_33, AB17 IO_L17N_T2_33, AB19 IO_L10P_T1_33, AB20 IO_L10N_T1_33, AB21 IO_L8N_T1_33, AB22 IO_L7N_T1_33, T21 IO_L1P_T0_33, T22 IO_L2P_T0_33, U14 IO_25_33, U15 IO_L15P_T2_DQS_33, U16 IO_L15N_T2_DQS_33, U17 IO_L16P_T2_33, U19 IO_0_33, U20 IO_L5P_T0_33, U21 IO_L1N_T0_33, U22 IO_L2N_T0_33, V13 IO_L20P_T3_33, V14 IO_L19P_T3_33, V15 IO_L19N_T3_VREF_33, V17 IO_L16N_T2_33, V18 IO_L6P_T0_33, V19 IO_L6N_T0_VREF_33, V20 IO_L5N_T0_33, V22 IO_L3P_T0_DQS_33, W13 IO_L20N_T3_33, W15 IO_L21P_T3_DQS_33, W16 IO_L14P_T2_SRCC_33, W17 IO_L13P_T2_MRCC_33, W18 IO_L13N_T2_MRCC_33, W20 IO_L4P_T0_33, W21 IO_L4N_T0_33, W22 IO_L3N_T0_DQS_33, Y13 IO_L23P_T3_33, Y14 IO_L22P_T3_33, Y15 IO_L21N_T3_DQS_33, Y16 IO_L14N_T2_SRCC_33, Y18 IO_L12P_T1_MRCC_33, Y19 IO_L11P_T1_SRCC_33, Y20 IO_L9P_T1_DQS_33, Y21 IO_L9N_T1_DQS_33
part E pins: H15 IO_0_34, J15 IO_L1P_T0_34, J16 IO_L2P_T0_34, J17 IO_L2N_T0_34, J18 IO_L7P_T1_34, J20 IO_L9P_T1_DQS_34, J21 IO_L8P_T1_34, J22 IO_L8N_T1_34, K15 IO_L1N_T0_34, K16 IO_L3P_T0_DQS_PUDC_B_34, K18 IO_L7N_T1_34, K19 IO_L11P_T1_SRCC_34, K20 IO_L11N_T1_SRCC_34, K21 IO_L9N_T1_DQS_34, L16 IO_L3N_T0_DQS_34, L17 IO_L4P_T0_34, L18 IO_L12P_T1_MRCC_34, L19 IO_L12N_T1_MRCC_34, L21 IO_L10P_T1_34, L22 IO_L10N_T1_34, M15 IO_L6P_T0_34, M16 IO_L6N_T0_VREF_34, M17 IO_L4N_T0_34, M19 IO_L13P_T2_MRCC_34, M20 IO_L13N_T2_MRCC_34, M21 IO_L15P_T2_DQS_34, M22 IO_L15N_T2_DQS_34, N15 IO_L19P_T3_34, N17 IO_L5P_T0_34, N18 IO_L5N_T0_34, N19 IO_L14P_T2_SRCC_34, N20 IO_L14N_T2_SRCC_34, N22 IO_L16P_T2_34, P15 IO_L19N_T3_VREF_34, P16 IO_L24P_T3_34, P17 IO_L20P_T3_34, P18 IO_L20N_T3_34, P20 IO_L18P_T2_34, P21 IO_L18N_T2_34, P22 IO_L16N_T2_34, R15 IO_25_34, R16 IO_L24N_T3_34, R18 IO_L23P_T3_34, R19 IO_L22P_T3_34, R20 IO_L17P_T2_34, R21 IO_L17N_T2_34, T16 IO_L21P_T3_DQS_34, T17 IO_L21N_T3_DQS_34, T18 IO_L23N_T3_34, T19 IO_L22N_T3_34
part F pins: A16 IO_L9P_T1_DQS_AD3P_35, A17 IO_L9N_T1_DQS_AD3N_35, A18 IO_L10P_T1_AD11P_35, A19 IO_L10N_T1_AD11N_35, A21 IO_L15P_T2_DQS_AD12P_35, A22 IO_L15N_T2_DQS_AD12N_35, B15 IO_L7N_T1_AD2N_35, B16 IO_L8P_T1_AD10P_35, B17 IO_L8N_T1_AD10N_35, B19 IO_L13P_T2_MRCC_35, B20 IO_L13N_T2_MRCC_35, B21 IO_L18P_T2_AD13P_35, B22 IO_L18N_T2_AD13N_35, C15 IO_L7P_T1_AD2P_35, C17 IO_L11P_T1_SRCC_35, C18 IO_L11N_T1_SRCC_35, C19 IO_L12N_T1_MRCC_35, C20 IO_L14N_T2_AD4N_SRCC_35, C22 IO_L16N_T2_35, D15 IO_L3N_T0_DQS_AD1N_35, D16 IO_L2P_T0_AD8P_35, D17 IO_L2N_T0_AD8N_35, D18 IO_L12P_T1_MRCC_35, D20 IO_L14P_T2_AD4P_SRCC_35, D21 IO_L17N_T2_AD5N_35, D22 IO_L16P_T2_35, E15 IO_L3P_T0_DQS_AD1P_35, E16 IO_L1N_T0_AD0N_35, E18 IO_L5N_T0_AD9N_35, E19 IO_L21P_T3_DQS_AD14P_35, E20 IO_L21N_T3_DQS_AD14N_35, E21 IO_L17P_T2_AD5P_35, F16 IO_L1P_T0_AD0P_35, F17 IO_L6N_T0_VREF_35, F18 IO_L5P_T0_AD9P_35, F19 IO_L20N_T3_AD6N_35, F21 IO_L23P_T3_35, F22 IO_L23N_T3_35, G15 IO_L4P_T0_35, G16 IO_L4N_T0_35, G17 IO_L6P_T0_35, G19 IO_L20P_T3_AD6P_35, G20 IO_L22P_T3_AD7P_35, G21 IO_L22N_T3_AD7N_35, G22 IO_L24N_T3_AD15N_35, H17 IO_0_35, H18 IO_25_35, H19 IO_L19P_T3_35, H20 IO_L19N_T3_VREF_35, H22 IO_L24P_T3_AD15P_35
part G pins: A1 PS_MIO1_500, A2 PS_MIO2_500, A3 PS_MIO5_500, A4 PS_MIO6_500, A6 PS_MIO13_500, B4 PS_MIO11_500, B5 PS_POR_B_500, B6 PS_MIO14_500, C4 PS_MIO9_500, C5 PS_MIO12_500, D5 PS_MIO7_500, E4 PS_MIO4_500, E5 PS_MIO8_500, E6 PS_MIO15_500, F6 PS_MIO3_500, F7 PS_CLK_500, G6 PS_MIO0_500, G7 PS_MIO10_500
part H pins: A7 PS_MIO18_501, A8 PS_MIO20_501, A9 PS_MIO36_501, A11 PS_MIO30_501, A12 PS_MIO28_501, A13 PS_MIO26_501, A14 PS_MIO22_501, B7 PS_MIO24_501, B9 PS_MIO45_501, B10 PS_MIO47_501, B11 PS_MIO43_501, B12 PS_MIO34_501, B14 PS_MIO37_501, C7 PS_MIO32_501, C8 PS_MIO41_501, C9 PS_SRST_B_501, C10 PS_MIO51_501, C12 PS_MIO53_501, C13 PS_MIO39_501, C14 PS_MIO49_501, D6 PS_MIO16_501, D7 PS_MIO27_501, D8 PS_MIO42_501, D10 PS_MIO52_501, D11 PS_MIO48_501, D12 PS_MIO46_501, D13 PS_MIO50_501, E8 PS_MIO29_501, E9 PS_MIO17_501, E10 PS_MIO19_501, E11 PS_MIO23_501, E13 PS_MIO44_501, E14 PS_MIO40_501, F8 PS_MIO_VREF_501, F9 PS_MIO31_501, F11 PS_MIO21_501, F12 PS_MIO25_501, F13 PS_MIO38_501, F14 PS_MIO35_501, G13 PS_MIO33_501
part I pins: AA1 PS_DDR_DQ26_502, AA2 PS_DDR_DM3_502, AA3 PS_DDR_DQ24_502, B1 PS_DDR_DM0_502, B2 PS_DDR_DQ2_502, C2 PS_DDR_DQS_P0_502, C3 PS_DDR_DQ1_502, D1 PS_DDR_DQ0_502, D2 PS_DDR_DQS_N0_502, D3 PS_DDR_DQ3_502, E1 PS_DDR_DQ5_502, E3 PS_DDR_DQ4_502, F1 PS_DDR_DQ7_502, F2 PS_DDR_DQ6_502, F3 PS_DDR_DRST_B_502, F4 PS_DDR_A13_502, G1 PS_DDR_DQ9_502, G2 PS_DDR_DQ8_502, G4 PS_DDR_A14_502, G5 PS_DDR_A11_502, H2 PS_DDR_DQS_P1_502, H3 PS_DDR_DM1_502, H4 PS_DDR_A12_502, H5 PS_DDR_A9_502, H7 PS_DDR_VREF0_502, J1 PS_DDR_DQ14_502, J2 PS_DDR_DQS_N1_502, J3 PS_DDR_A10_502, J5 PS_DDR_A8_502, J6 PS_DDR_A7_502, J7 PS_DDR_A6_502, K1 PS_DDR_DQ13_502, K3 PS_DDR_DQ15_502, K4 PS_DDR_A2_502, K5 PS_DDR_A5_502, K6 PS_DDR_A4_502, L1 PS_DDR_DQ10_502, L2 PS_DDR_DQ11_502, L3 PS_DDR_DQ12_502, L4 PS_DDR_A3_502, L6 PS_DDR_BA1_502, L7 PS_DDR_BA0_502, M1 PS_DDR_DQ16_502, M2 PS_DDR_DQ22_502, M4 PS_DDR_A0_502, M5 PS_DDR_A1_502, M6 PS_DDR_BA2_502, M7 PS_DDR_VRN_502, N2 PS_DDR_DQS_P2_502, N3 PS_DDR_DQ18_502, N4 PS_DDR_CKP_502, N5 PS_DDR_CKN_502, N7 PS_DDR_VRP_502, P1 PS_DDR_DM2_502, P2 PS_DDR_DQS_N2_502, P3 PS_DDR_CAS_B_502, P5 PS_DDR_ODT_502, P6 PS_DDR_CS_B_502, P7 PS_DDR_VREF1_502, R1 PS_DDR_DQ23_502, R3 PS_DDR_DQ20_502, R4 PS_DDR_WE_B_502, R5 PS_DDR_RAS_B_502, T1 PS_DDR_DQ19_502, T2 PS_DDR_DQ21_502, T3 PS_DDR_DQ17_502, U1 PS_DDR_DQ25_502, U2 PS_DDR_DQ27_502, V2 PS_DDR_DQS_P3_502, V3 PS_DDR_CKE_502, W1 PS_DDR_DQ28_502, W2 PS_DDR_DQS_N3_502, W3 PS_DDR_DQ30_502, Y1 PS_DDR_DQ31_502, Y3 PS_DDR_DQ29_502
part J pins: A5 GND, A15 GND, AA5 GND, AA15 GND, AB8 GND, AB18 GND, B8 GND, B18 GND, C1 GND, C11 GND, C21 GND, D4 GND, D14 GND, E7 GND, E17 GND, F10 GND, F20 GND, G3 GND, H6 GND, H8 GND, H12 GND, H14 GND, H16 GND, J9 GND, J11 GND, J13 GND, J19 GND, K2 GND, K8 GND, K10 GND, K14 GND, K22 GND, L5 GND, L9 GND, L13 GND, L15 GND, M8 GND, M10 GND, M14 GND, M18 GND, N1 GND, N9 GND, N13 GND, N21 GND, P4 GND, P8 GND, P10 GND, P12 GND, P14 GND, R9 GND, R11 GND, R13 GND, R17 GND, T20 GND, U3 GND, U13 GND, V6 GND, V16 GND, W9 GND, W19 GND, Y2 GND, Y12 GND, Y22 GND
part A text: Power
part B text: Bank 0
part C text: Bank 13
part D text: Bank 33
part E text: Bank 34
part F text: Bank 35
part G text: Bank 500
part H text: Bank 501
part I text: Bank 502, DDR Port

## XEM6310
designator X_JP?  (value not drawn)
Part Number: BTE-040-01-F-D-A; Value: XEM6310 Connector; Farnell: 2581980
footprint BTE-XEM (XEM6310 or XEM3010)
part A pins: 1A DGND, 2A +3.3VDD, 3A Vbatt, 4A +3.3VDD, 5A JTAG_TCK, 6A +3.3VDD, 7A JTAG_TMS, 8A JTAG_TDO, 9A JTAG_TDI, 10A Bank 1 VREF, 11A U12, 12A Rfuse, 13A DGND, 14A DGND, 15A G16 / L9P_1  /1, 16A G19 / L33P_1 /1, 17A G17 / L9N_1  /1, 18A F20 / L33N_1 /1, 19A H19 / L34P_1 /1, 20A H20 / L38P_1 /1, 21A H18 / L34N_1 /1, 22A J19 / L38N_1 /1, 23A F16 / L10P_1 /1, 24A D19 / L29P_1 /1, 25A F17 / L10N_1 /1, 26A D20 / L29N_1 /1, 27A J17 / L36P_1 /1, 28A F18 / L30P_1 /1, 29A K17 / L36N_1 /1, 30A F19 / L30N_1 /1, 31A K16 / L21P_1 /1, 32A M16 / L58P_1 /1, 33A J16 / L21N_1 /1, 34A L15 / L58N_1 /1, 35A Bank 1 VCCO, 36A DGND, 37A V21 / L52P_1, 38A K20 / L40P_GCLK11_1 /1, 39A V22 / L52N_1, 40A K19 / L40N_GCLK10_1, 41A T21 / L50P_1 /1, 42A U20 / L51P_1 /1, 43A T22 / L50N_1 /1, 44A U22 / L51N_1 /1, 45A P21 / L48P_1 /1, 46A R20 / L49P_1 /1, 47A P22 / L48N_1 /1, 48A R22 / L49N_1 /1, 49A M21 / L46P_1 /1, 50A N20 / L47P_1 /1, 51A M22 / L46N_1 /1, 52A N22 / L47N_1 /1, 53A L20 / L45P_1 /1, 54A M20 / L42P_GCLK7_1, 55A Bank 1 VCCO, 56A DGND, 57A L22 / L45N_1       /1, 58A L19 / L42N_GCLK6_1 /1, 59A H21 / L41P_GCLK9_1 /1, 60A K21 / L44P_1, 61A H22 / L41N_GCLK8_1 /1, 62A K22 / L44N_1 /1, 63A F21 / L37P_1 /1, 64A G20 / L39P_1 /1, 65A F22 / L37N_1 /1, 66A G22 / L39N_1 /1, 67A D21 / L31P_1 /1, 68A E20 / L35P_1 /1, 69A D22 / L31N_1 /1, 70A E22 / L35N_1 /1, 71A B21 / L19P_1 /1, 72A C20 / L32P_1 /1, 73A B22 / L19N_1 /1, 74A C22 / L32N_1 /1, 75A A21 / L20N_1 /1, 76A A20 / L20P_1 /1, 77A J20 / L43P_GCLK5_1 /1, 78A DGND, 79A J22 / L43N_GCLK4_1 /1, 80A DGND
part B pins: 1B +VDC, 2B DGND, 3B +VDC, 4B +1.2VDD, 5B +VDC, 6B +1.2VDD, 7B +1.8VDD, 8B T14 / L23P_2 /2, 9B +3.3VDD, 10B Y9  / L43P_2  /2, 11B +3.3VDD, 12B AB9 / L43N_2 /2, 13B +3.3VDD, 14B DGND, 15B W20 / L60P_1 /1, 16B T19 / L74P_1 /1, 17B W22 / L60N_1 /1, 18B T20 / L74N_1 /1, 19B U19 / L70P_1 /1, 20B P17 / L72P_1 /1, 21B V20 / L70N_1 /1, 22B N16 / L72N_1 /1, 23B C5  / L2P_0  /0, 24B M17 / L71P_1 /1, 25B A5  / L2N_0  /0, 26B M18 / L71N_1 /1, 27B D14 / L49P_0 /0, 28B P18 / L73P_1 /1, 29B C14 / L49N_0 /0, 30B R19 / L73N_1 /1, 31B E16 / L66P_0 /0, 32B D9  / L7P_0  /0, 33B D17 / L66N_0 /0, 34B C8  / L7N_0  /0, 35B DGND, 36B Bank 0 VCCO, 37B D7  / L32P_0 /0, 38B D10 / L33P_0 /0, 39B D8  / L32N_0 /0, 40B C10 / L33N_0 /0, 41B L17 / L61P_1 /1, 42B D11 / L36P_GCLK15_0 /0, 43B K18 / L61N_1 /1, 44B C12 / L36N_GCLK14_0 /0, 45B D6  / L3P_0  /0, 46B D15 / L62P_0 /0, 47B C6  / L3N_0  /0, 48B C16 / L62N_VREF_0 /0, 49B A3  / L1P_HSWAPEN_0 /0, 50B B6  / L4P_0 /0, 51B A4  / L1N_VREF_0 /0, 52B A6  / L4N_0 /0, 53B B8  / L6P_0 /0, 54B C7  / L5P_0 /0, 55B DGND, 56B Bank 0 VCCO, 57B A8  / L6N_0 /0, 58B A7  / L5N_0 /0, 59B B10 / L34P_GCLK19_0 /0, 60B C9  / L8P_0 / 0, 61B A10 / L34N_GCLK18_0 /0, 62B A9  / L8N_VREF_0 /0, 63B C13 / L38P_0 /0, 64B B12 / L37P_GCLK13_0 /0, 65B A13 / L38N_VREF_0 /0, 66B A12 / L37N_GCLK12_0 /0, 67B C15 / L51P_0 /0 , 68B B14 / L50P_0 /0 , 69B A15 / L51N_0 /0 , 70B A14 / L50N_0 /0 , 71B C17 / L64P_0 /0 , 72B B16 / L63P_0 /0 , 73B A17 / L64N_0 /0 , 74B A16 / L63N_0 /0 , 75B A18 / L65N_0 /1 , 76B B18 / L65P_0 /1 , 77B C11 / L35P_GCLK17_0 / 0, 78B DGND, 79B A11 / L35N_GCLK16_0 / 0, 80B DGND
part A text: "JP2"
part B text: "JP1"

## Xilinx JTAG
designator JP?
footprint XILINX_JTAG
pins: 1 GND, 2 VREF, 3 GND, 4 TMS, 5 GND, 6 TCK, 7 GND, 8 TDO, 9 GND, 10 TDI, 11 GND, 12 NC, 13 GND, 14 NC

## XM112 Connector
designator J?  (value not drawn)
Order Number: H11622CT-ND; Supplier: Digikey
footprint DF40C-30DP-0.4V51
footprint DF40C-30DP-0.4V51_S
pins: 1 SPI_CLK, 2 GND, 3 GND, 4 +1V8, 5 SPI_MOSI, 6 +1V8, 7 GND, 8 GND, 9 SPI_MISO, 10 MCU_GPIO, 11 GND, 12 UART4_TXRX1, 13 SPI_SS, 14 UART4_RXTX1, 15 GND, 16 ERASE, 17 UART0_TXRX1, 18 NRST, 19 UART0_RXTX1, 20 SWDIO, 21 GND, 22 TRACESWO, 23 UART2_TXRX1, 24 GND, 25 UART2_RXTX1, 26 SWDCLK, 27 I2C_SDA, 28 GND, 29 I2C_SCL, 30 MCU_INT

## XTAL ABM3B
designator XT?  value 20 MHz  (hidden comment: *)
20 MHz; Digikey: 300-8214-1-ND
footprint ABM3B (CRYSTAL 20.0000MHZ 10PF SMD)
pins: 1, 2, 3, 4

## XTAL TXC 7A
designator XT?  value 0  (hidden comment: *)
16 MHz, SMD, 5mm x 3,2mm, 30 ppm; Farnell: 1841946
footprint XTAL_SMD_LP (Pad 1.7x2.4, Pitch 3.7)
pins: 1, 2

## Zener BZX84
designator Z?  value 0  (hidden comment: *)
footprint SOT-23
pins: 1 Anode, 3 Cathode

## Zener Universal
designator Z?  value 0  (hidden comment: *)
footprint universal (0603-1206)
pins: 0 Cathode, 1 Anode